# EAGLE library part PEREGRINE_SEMICONDUCTOR_PE4259 (library Upverter Library)
RF Switch IC General Purpose SPDT 3GHz 50 Ohm SC-70-6
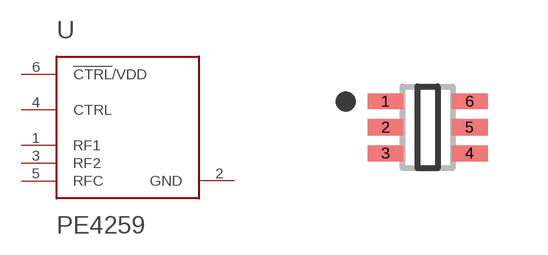
[diagram p0: symbol with the pads of PEREGRINE_SEMICONDUCTOR_PE4259_0; footprint PEREGRINE_SEMICONDUCTOR_PE4259_0]

Designator prefix U

## PEREGRINE_SEMICONDUCTOR_PE4259PEREGRINE_SEMICONDUCTOR_PE4259_0_0 (MF: Peregrine Semiconductor; MPN: PE4259; Operation_Frequency_(Max): 3GHz; Operation_Frequency_(Min): 10MHz; Power_Supply_Current_(Max): 20μA; Power_Supply_Voltage_(Max): 3.3V; Power_Supply_Voltage_(Min): 1.8V; centroid_not_specified: No; datasheet: http://www.psemi.com/pdf/datasheets/pe4259ds.pdf; digikey_description: IC RF SWITCH SPDT 50 OHM SC70-6; digikey_part_number: 1046-1011-2-ND; lead_free: yes; mfg_package_ident: DOC-76316; package: SC-70-6; prefix: U; rohs: yes; temperature_range_high: 85°C; temperature_range_low: -40°C; voltage: 3V)  [PEREGRINE_SEMICONDUCTOR_PE4259_0]
1  RF1
2  GND
3  RF2
4  CTRL
5  RFC
6  !CTRL!/VDD

## Footprint PEREGRINE_SEMICONDUCTOR_PE4259_0 (pad centres in mm)
RF Switch IC General Purpose SPDT 3GHz 50 Ohm SC-70-6
smd 0.9 x 0.4: 1 -1.05,0.65; 2 -1.05,0; 3 -1.05,-0.65; 4 1.05,-0.65; 5 1.05,0; 6 1.05,0.65